# Altium footprint library PcbLib1.PcbLib: 29 footprints (part 2 of 2)
Each footprint in its own frame and in the unit in brackets; x right, y up, seen from the top. Pads: shape width x height; smd on the part's side, far side on the other; paste and mask are expansions set on the pad; w line width, h text height; cw(c..) or ccw(c..) is an arc to the next point about the centre after c.
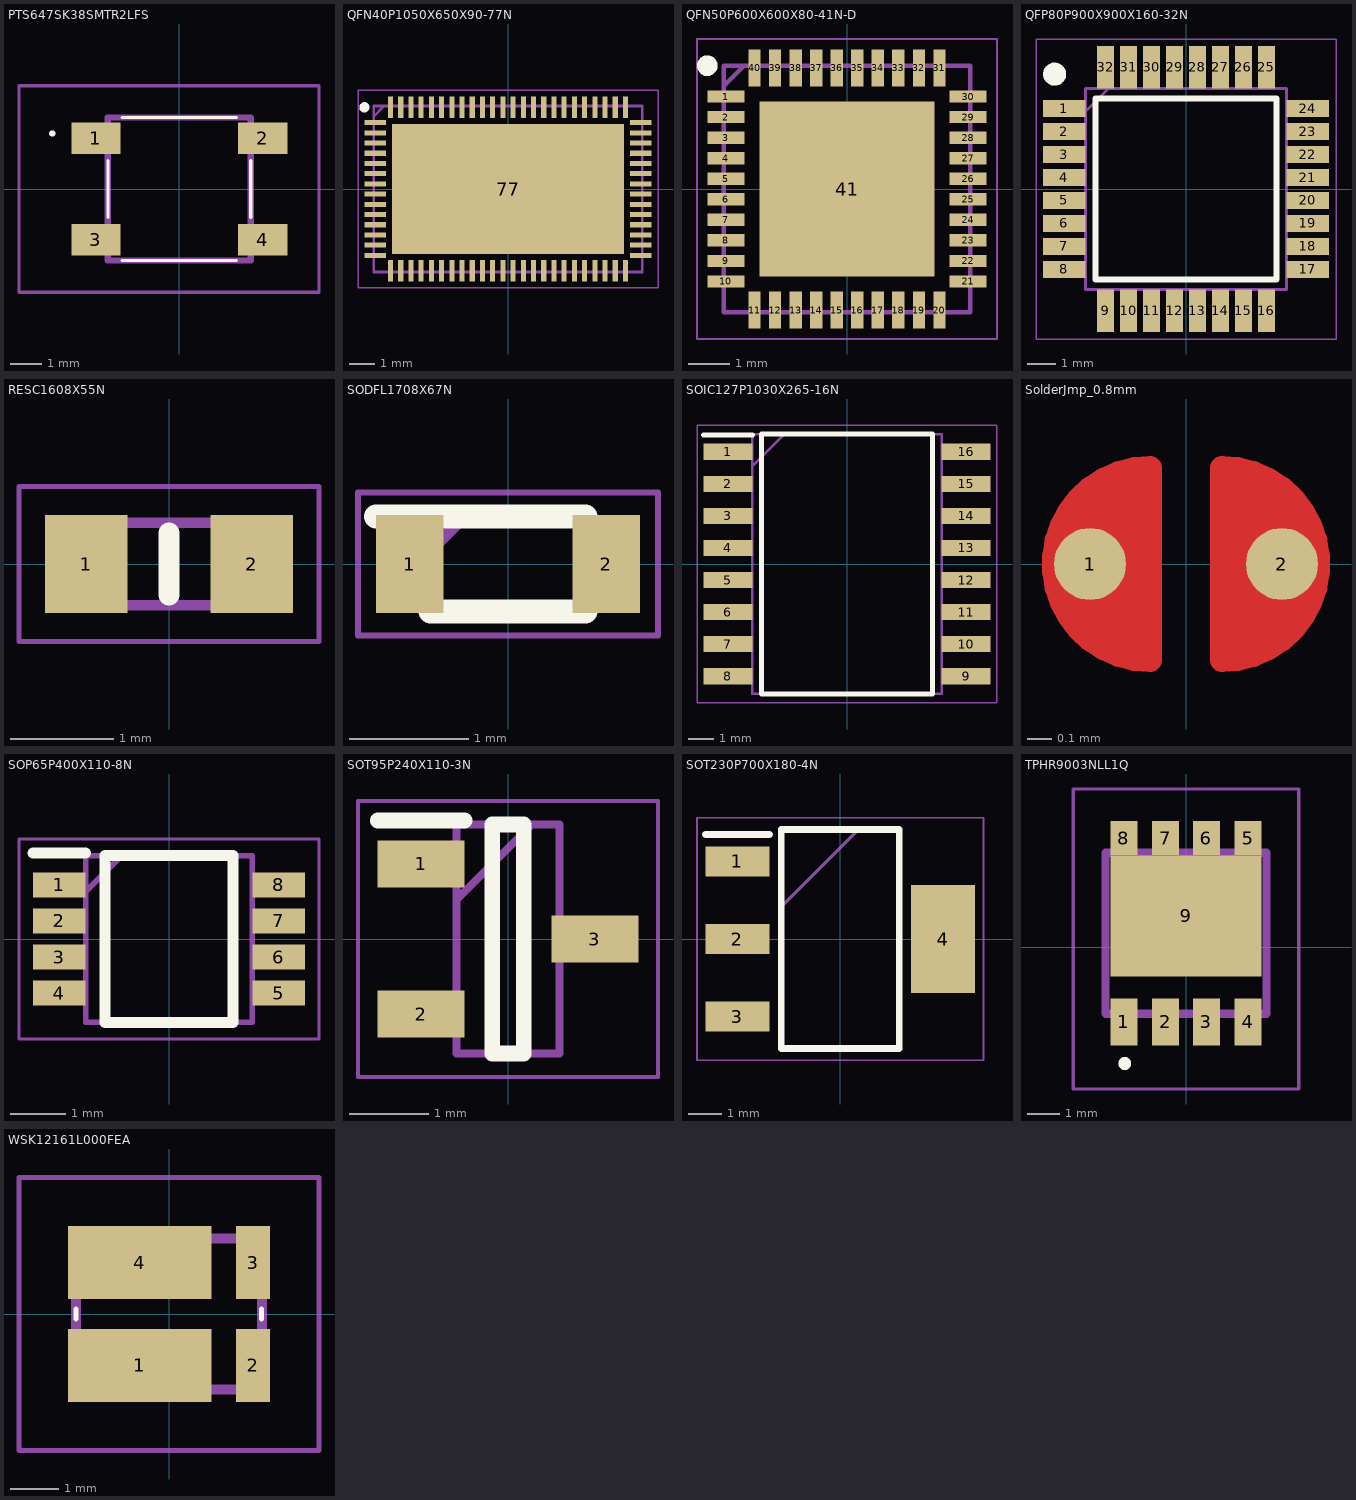
[diagram p1: the footprints below, top view; thin cyan lines are the x and y axes]

## PTS647SK38SMTR2LFS [mm]
pads (4):
  rect 1.55x1 smd: 1(-2.625,1.6) 2(2.625,1.6) 3(-2.625,-1.6) 4(2.625,-1.6)
Top Overlay:
  lines w0.1: -2.25,-0.9 -2.25,0.9 ; -1.8,-2.25 1.8,-2.25 ; -1.8,2.25 1.8,2.25 ; 2.25,-0.9 2.25,0.9 ; -4,1.7 ccw(c-4,1.75) -4,1.8 ccw(c-4,1.75) -4,1.7
Mechanical 13:
  lines w0.2: -2.25,-2.25 -2.25,2.25 2.25,2.25 2.25,-2.25 -2.25,-2.25
Mechanical 15:
  lines w0.1: -5.05,-3.25 -5.05,3.25 4.4,3.25 4.4,-3.25 -5.05,-3.25
3D body "PTS647SK38SMTR2LFS.stp": height 3.9, standoff 0, extent -3.3,-2.25 3.3,2.25

## QFN40P1050X650X90-77N [mm]
pads (77):
  rect 0.85x0.2 smd: 1(-5.2,2.6) 2(-5.2,2.2) 3(-5.2,1.8) 4(-5.2,1.4) 5(-5.2,1) 6(-5.2,0.6) 7(-5.2,0.2) 8(-5.2,-0.2) 9(-5.2,-0.6) 10(-5.2,-1) 11(-5.2,-1.4) 12(-5.2,-1.8) 13(-5.2,-2.2) 14(-5.2,-2.6) 39(5.2,-2.6) 40(5.2,-2.2) 41(5.2,-1.8) 42(5.2,-1.4) 43(5.2,-1) 44(5.2,-0.6) 45(5.2,-0.2) 46(5.2,0.2) 47(5.2,0.6) 48(5.2,1) 49(5.2,1.4) 50(5.2,1.8) 51(5.2,2.2) 52(5.2,2.6)
  rect 0.2x0.85 smd: 15(-4.6,-3.2) 16(-4.2,-3.2) 17(-3.8,-3.2) 18(-3.4,-3.2) 19(-3,-3.2) 20(-2.6,-3.2) 21(-2.2,-3.2) 22(-1.8,-3.2) 23(-1.4,-3.2) 24(-1,-3.2) 25(-0.6,-3.2) 26(-0.2,-3.2) 27(0.2,-3.2) 28(0.6,-3.2) 29(1,-3.2) 30(1.4,-3.2) 31(1.8,-3.2) 32(2.2,-3.2) 33(2.6,-3.2) 34(3,-3.2) 35(3.4,-3.2) 36(3.8,-3.2) 37(4.2,-3.2) 38(4.6,-3.2) 53(4.6,3.2) 54(4.2,3.2) 55(3.8,3.2) 56(3.4,3.2) 57(3,3.2) 58(2.6,3.2) 59(2.2,3.2) 60(1.8,3.2) 61(1.4,3.2) 62(1,3.2) 63(0.6,3.2) 64(0.2,3.2) 65(-0.2,3.2) 66(-0.6,3.2) 67(-1,3.2) 68(-1.4,3.2) 69(-1.8,3.2) 70(-2.2,3.2) 71(-2.6,3.2) 72(-3,3.2) 73(-3.4,3.2) 74(-3.8,3.2) 75(-4.2,3.2) 76(-4.6,3.2)
  rect 9.1x5.1 smd: 77(0,0)
Top Overlay:
  circle w0.2: c-5.625,3.2 r0.1
Mechanical 13:
  lines w0.1: -5.25,2.85 -4.85,3.25 ; -5.25,-3.25 5.25,-3.25 5.25,3.25 -5.25,3.25 -5.25,-3.25
Mechanical 15:
  lines w0.05: -5.875,-3.875 5.875,-3.875 5.875,3.875 -5.875,3.875 -5.875,-3.875
3D body "TMC4671-ES.stp": height 0.9, standoff 0, extent -5.3,-3.3 5.3,3.3

## QFN50P600X600X80-41N-D [mm]
pads (41):
  rect 0.9x0.3 smd: 1(-2.95,2.25) 2(-2.95,1.75) 3(-2.95,1.25) 4(-2.95,0.75) 5(-2.95,0.25) 6(-2.95,-0.25) 7(-2.95,-0.75) 8(-2.95,-1.25) 9(-2.95,-1.75) 10(-2.95,-2.25) 21(2.95,-2.25) 22(2.95,-1.75) 23(2.95,-1.25) 24(2.95,-0.75) 25(2.95,-0.25) 26(2.95,0.25) 27(2.95,0.75) 28(2.95,1.25) 29(2.95,1.75) 30(2.95,2.25)
  rect 0.3x0.9 smd: 11(-2.25,-2.95) 12(-1.75,-2.95) 13(-1.25,-2.95) 14(-0.75,-2.95) 15(-0.25,-2.95) 16(0.25,-2.95) 17(0.75,-2.95) 18(1.25,-2.95) 19(1.75,-2.95) 20(2.25,-2.95) 31(2.25,2.95) 32(1.75,2.95) 33(1.25,2.95) 34(0.75,2.95) 35(0.25,2.95) 36(-0.25,2.95) 37(-0.75,2.95) 38(-1.25,2.95) 39(-1.75,2.95) 40(-2.25,2.95)
  rect 4.25x4.25 smd: 41(0,0)
Top Overlay:
  circle w0.25: c-3.4,3 r0.125
Mechanical 13:
  lines w0.1: -3,2.5 -2.5,3 ; -3,-3 3,-3 3,3 -3,3 -3,-3
Mechanical 15:
  lines w0.05: -3.65,-3.65 3.65,-3.65 3.65,3.65 -3.65,3.65 -3.65,-3.65
3D body "DRV8323HRTAR.stp": height 0.8, standoff 0, extent -3.05,-3.05 3.05,3.05

## QFP80P900X900X160-32N [mm]
pads (32):
  rect 1.475x0.6 smd: 1(-4.238,2.8) 2(-4.238,2) 3(-4.238,1.2) 4(-4.238,0.4) 5(-4.238,-0.4) 6(-4.238,-1.2) 7(-4.238,-2) 8(-4.238,-2.8) 17(4.238,-2.8) 18(4.238,-2) 19(4.238,-1.2) 20(4.238,-0.4) 21(4.238,0.4) 22(4.238,1.2) 23(4.238,2) 24(4.238,2.8)
  rect 0.6x1.475 smd: 9(-2.8,-4.238) 10(-2,-4.238) 11(-1.2,-4.238) 12(-0.4,-4.238) 13(0.4,-4.238) 14(1.2,-4.238) 15(2,-4.238) 16(2.8,-4.238) 25(2.8,4.238) 26(2,4.238) 27(1.2,4.238) 28(0.4,4.238) 29(-0.4,4.238) 30(-1.2,4.238) 31(-2,4.238) 32(-2.8,4.238)
Top Overlay:
  circle w0.4: c-4.575,4 r0.2
  lines w0.2: -3.15,-3.15 3.15,-3.15 3.15,3.15 -3.15,3.15 -3.15,-3.15
Mechanical 13:
  lines w0.1: -3.5,2.7 -2.7,3.5 ; -3.5,-3.5 3.5,-3.5 3.5,3.5 -3.5,3.5 -3.5,-3.5
Mechanical 15:
  lines w0.05: -5.225,-5.225 5.225,-5.225 5.225,5.225 -5.225,5.225 -5.225,-5.225
3D body "STM32F303K8T6.stp": height 1.6, standoff 0, extent -4.5,-4.5 4.5,4.5

## RESC1608X55N [mm]
pads (2):
  rect 0.8x0.95 smd: 1(-0.8,0) 2(0.8,0)
Top Overlay:
  lines w0.2: 0,-0.3 0,0.3
Mechanical 13:
  lines w0.1: -0.8,-0.4 -0.8,0.4 0.8,0.4 0.8,-0.4 -0.8,-0.4
Mechanical 15:
  lines w0.05: -1.45,-0.75 -1.45,0.75 1.45,0.75 1.45,-0.75 -1.45,-0.75
3D body "RC0603FR-0710KL.stp": height 0.55, standoff 0, extent -0.8,-0.4 0.8,0.4

## SODFL1708X67N [mm]
pads (2):
  rect 0.57x0.82 smd: 1(-0.825,0) 2(0.825,0)
Top Overlay:
  lines w0.2: -1.11,0.4 0.65,0.4 ; -0.65,-0.4 0.65,-0.4
Mechanical 13:
  lines w0.1: -0.65,0.115 -0.365,0.4 ; -0.65,-0.4 -0.65,0.4 0.65,0.4 0.65,-0.4 -0.65,-0.4
Mechanical 15:
  lines w0.05: -1.26,-0.6 -1.26,0.6 1.26,0.6 1.26,-0.6 -1.26,-0.6
3D body "LS_L29K-H1J2-1-Z.stp": height 0.67, standoff 0, extent -0.85,-0.4 0.85,0.4

## SOIC127P1030X265-16N [mm]
pads (16):
  rect 1.95x0.65 smd: 1(-4.725,4.445) 2(-4.725,3.175) 3(-4.725,1.905) 4(-4.725,0.635) 5(-4.725,-0.635) 6(-4.725,-1.905) 7(-4.725,-3.175) 8(-4.725,-4.445) 9(4.725,-4.445) 10(4.725,-3.175) 11(4.725,-1.905) 12(4.725,-0.635) 13(4.725,0.635) 14(4.725,1.905) 15(4.725,3.175) 16(4.725,4.445)
Top Overlay:
  lines w0.2: -5.7,5.12 -3.75,5.12 ; -3.4,-5.15 -3.4,5.15 3.4,5.15 3.4,-5.15 -3.4,-5.15
Mechanical 13:
  lines w0.1: -3.75,3.88 -2.48,5.15 ; -3.75,-5.15 -3.75,5.15 3.75,5.15 3.75,-5.15 -3.75,-5.15
Mechanical 15:
  lines w0.05: -5.95,-5.5 -5.95,5.5 5.95,5.5 5.95,-5.5 -5.95,-5.5
3D body "CD4050BDW.stp": height 2.65, standoff 0, extent -5.15,-5.15 5.15,5.15

## SolderJmp_0.8mm [mm]
pads (2):
  round 0.3 smd paste+0 mask+0: 1(-0.4,0) 2(0.4,0)
Top Layer:
  region: 0.15,0.4 0.23,0.4 0.377,0.339 0.489,0.227 0.55,0.08 0.55,-0.08 0.489,-0.227 0.377,-0.339 0.23,-0.4 0.15,-0.4
  region: -0.15,-0.4 -0.23,-0.4 -0.377,-0.339 -0.489,-0.227 -0.55,-0.08 -0.55,0.08 -0.489,0.227 -0.377,0.339 -0.23,0.4 -0.15,0.4
  lines w0.102: -0.15,-0.4 cw(c-0.15,0) -0.15,0.4 -0.15,-0.4 ; 0.15,-0.4 ccw(c0.15,0) 0.15,0.4 0.15,-0.4
Top Solder:
  region: -0.15,-0.475 0.15,-0.475 0.244,-0.475 0.419,-0.403 0.553,-0.269 0.625,-0.094 0.625,0.094 0.553,0.269 0.419,0.403 0.244,0.475 0.15,0.475 -0.15,0.475 -0.244,0.475 -0.419,0.403 -0.553,0.269 -0.625,0.094 -0.625,-0.094 -0.553,-0.269 -0.419,-0.403 -0.244,-0.475
  lines w0.1: -0.15,-0.475 cw(c-0.15,0) -0.15,0.475 0.15,0.475 cw(c0.15,0) 0.15,-0.475 -0.15,-0.475

## SOP65P400X110-8N [mm]
pads (8):
  rect 0.95x0.45 smd: 1(-1.975,0.975) 2(-1.975,0.325) 3(-1.975,-0.325) 4(-1.975,-0.975) 5(1.975,-0.975) 6(1.975,-0.325) 7(1.975,0.325) 8(1.975,0.975)
Top Overlay:
  lines w0.2: -2.45,1.55 -1.5,1.55 ; -1.15,-1.5 -1.15,1.5 1.15,1.5 1.15,-1.5 -1.15,-1.5
Mechanical 13:
  lines w0.1: -1.5,0.85 -0.85,1.5 ; -1.5,-1.5 -1.5,1.5 1.5,1.5 1.5,-1.5 -1.5,-1.5
Mechanical 15:
  lines w0.05: -2.7,-1.8 -2.7,1.8 2.7,1.8 2.7,-1.8 -2.7,-1.8
3D body "74LVC3G17DP,125.stp": height 1.1, standoff 0, extent -2,-1.5 2,1.5

## SOT95P240X110-3N [mm]
pads (3):
  rect 1.1x0.6 smd: 1(-1.1,0.95) 2(-1.1,-0.95) 3(1.1,0)
Top Overlay:
  lines w0.2: -1.65,1.5 -0.55,1.5 ; -0.2,-1.45 -0.2,1.45 0.2,1.45 0.2,-1.45 -0.2,-1.45
Mechanical 13:
  lines w0.1: -0.65,0.5 0.3,1.45 ; -0.65,-1.45 -0.65,1.45 0.65,1.45 0.65,-1.45 -0.65,-1.45
Mechanical 15:
  lines w0.05: -1.9,-1.75 -1.9,1.75 1.9,1.75 1.9,-1.75 -1.9,-1.75
3D body "BAT54S.stp": height 1.1, standoff 0, extent -1.2,-1.45 1.2,1.45

## SOT230P700X180-4N [mm]
pads (4):
  rect 1.9x0.9 smd: 1(-3.05,2.3) 2(-3.05,0) 3(-3.05,-2.3)
  rect 1.9x3.2 smd: 4(3.05,0)
Top Overlay:
  lines w0.2: -4,3.1 -2.1,3.1 ; -1.75,-3.25 1.75,-3.25 1.75,3.25 -1.75,3.25 -1.75,-3.25
Mechanical 13:
  lines w0.1: -1.75,0.95 0.55,3.25 ; -1.75,-3.25 1.75,-3.25 1.75,3.25 -1.75,3.25 -1.75,-3.25
Mechanical 15:
  lines w0.05: -4.25,-3.6 4.25,-3.6 4.25,3.6 -4.25,3.6 -4.25,-3.6
3D body "AP2114H-3.3TRG1.stp": height 1.8, standoff 0, extent -3.5,-3.25 3.5,3.25

## TPHR9003NLL1Q [mm]
pads (9):
  rect 0.85x1.45 smd: 1(-1.925,-2.309) 2(-0.635,-2.309) 3(0.635,-2.309) 4(1.925,-2.309)
  rect 0.85x1.05 smd: 5(1.925,3.391) 6(0.635,3.391) 7(-0.635,3.391) 8(-1.925,3.391)
  rect 4.7x3.75 smd: 9(0,0.981)
Top Overlay:
  lines w0.2: -1.9,-3.7 cw(c-1.9,-3.6) -1.9,-3.5 cw(c-1.9,-3.6) -1.9,-3.7
Mechanical 13:
  lines w0.254: -2.5,-2.059 2.5,-2.059 2.5,2.941 -2.5,2.941 -2.5,-2.059
Mechanical 15:
  lines w0.1: -3.5,-4.391 3.5,-4.391 3.5,4.916 -3.5,4.916 -3.5,-4.391
3D body "TPH2R506PL,L1Q.stp": height 1.1, standoff 0, extent -2.5,-2.949 2.5,3.831

## WSK12161L000FEA [mm]
pads (4):
  rect 2.95x1.495 smd: 1(-0.6,-1.053) 4(-0.6,1.053)
  rect 0.7x1.495 smd: 2(1.725,-1.053) 3(1.725,1.053)
Top Overlay:
  lines w0.1: -1.905,-0.1 -1.905,0.1 ; 1.9,-0.1 1.9,0.1
Mechanical 13:
  lines w0.2: -1.905,-1.55 1.905,-1.55 1.905,1.55 -1.905,1.55 -1.905,-1.55
Mechanical 15:
  lines w0.1: -3.075,-2.8 3.075,-2.8 3.075,2.8 -3.075,2.8 -3.075,-2.8
3D body "CurrentShunt_v2.step": height 1.51, standoff 0.02, extent -2.061,-1.747 1.948,1.746